# Altium schematic symbol library Integrated Circuit.SchLib: 2 symbols
Pins are listed as number, name and electrical type; pins without a type are passive.

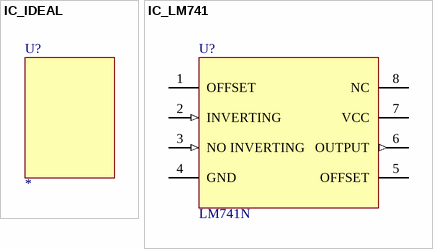
[diagram p0: symbols IC_IDEAL to IC_LM741]

## IC_IDEAL
designator U?
Min Temperature: ºC; Max Temperature: ºC; MPN: *

## IC_LM741
designator U?  MPN: LM741N  (hidden comment: *)
Min Temperature: -65 ºC; Max Temperature: 150 ºC
footprint PDIP-8_THC
pins: 1 OFFSET "Offset voltage and balance", 2 INVERTING (in) "Inverting input", 3 NO INVERTING (in) "No Inverting input", 4 GND, 5 OFFSET "Offset voltage and balance", 6 OUTPUT (out) "Amplified signal output", 7 VCC (power), 8 NC